# EAGLE library part 418217270905 (library Wurth_Elektronik_Electromechanic_Switchs_rev15b)
WS-RA 2.54 mm right angled compact THT Dip Switch with raised actuator, 5 Pole
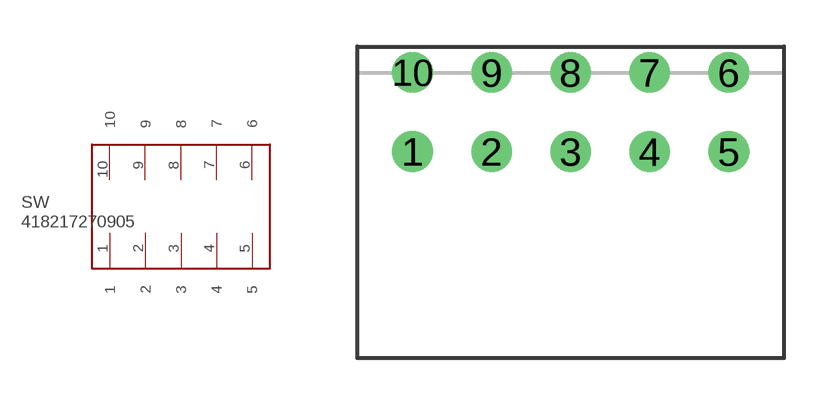
[diagram p76: symbol with the pads of 418217270905; footprint 418217270905]

Designator prefix SW

## 418217270905  [418217270905]
1  1
2  2
3  3
4  4
5  5
6  6
7  7
8  8
9  9
10  10

## Footprint 418217270905 (pad centres in mm)
WS-RA 2.54 mm right angled compact THT Dip Switch with raised actuator, 5 Pole
drill 0.8: 1 0,-1.27; 2 2.54,-1.27; 3 5.08,-1.27; 4 7.62,-1.27; 5 10.16,-1.27; 6 10.16,1.27; 7 7.62,1.27; 8 5.08,1.27; 9 2.54,1.27; 10 0,1.27